# Altium schematic symbol library MyBoard_v1.SCHLIB: 9 symbols
Pins are listed as number, name and electrical type; pins without a type are passive.

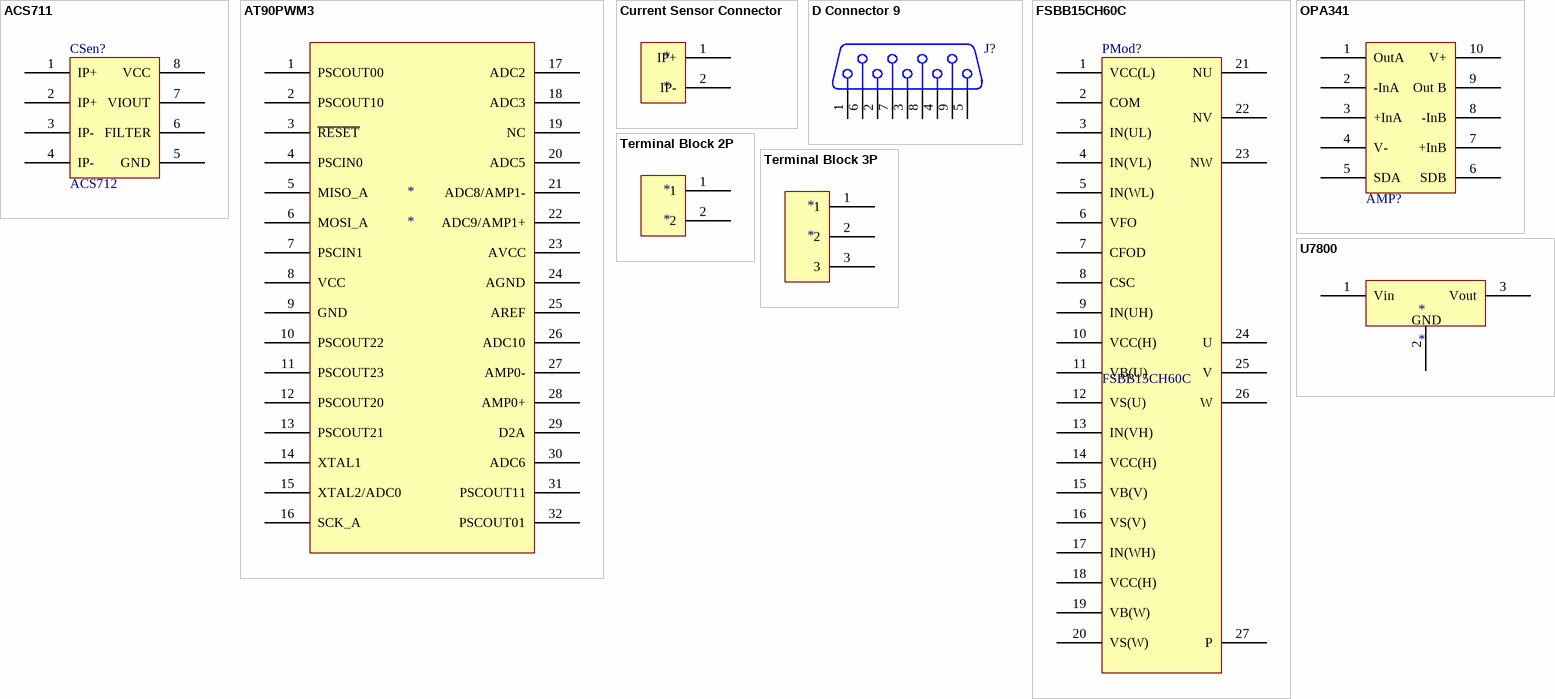
[diagram p0: symbols ACS711 to U7800]

## ACS711
designator CSen?, comment ACS712
footprint ACS712
pins: 1 IP+, 2 IP+, 3 IP-, 4 IP-, 5 GND, 6 FILTER, 7 VIOUT, 8 VCC

## AT90PWM3
designator *
footprint AT90PWM3B
pins: 1 PSCOUT00, 2 PSCOUT10, 3 ~{RESET}, 4 PSCIN0, 5 MISO_A, 6 MOSI_A, 7 PSCIN1, 8 VCC, 9 GND, 10 PSCOUT22, 11 PSCOUT23, 12 PSCOUT20, 13 PSCOUT21, 14 XTAL1, 15 XTAL2/ADC0, 16 SCK_A, 17 ADC2, 18 ADC3, 19 NC, 20 ADC5, 21 ADC8/AMP1-, 22 ADC9/AMP1+, 23 AVCC, 24 AGND, 25 AREF, 26 ADC10, 27 AMP0-, 28 AMP0+, 29 D2A, 30 ADC6, 31 PSCOUT11, 32 PSCOUT01

## Current Sensor Connector
designator *
footprint RAD-0.3 (Radial Cap, Thru-Hole; 2 Leads; 0.3 in Pin Spacing)
pins: 1 IP+, 2 IP-

## D Connector 9
designator J?
Receptacle Assembly, 9 Position, Right Angle; PackageDocument: O; Positions: 9; Published: 15-Jun-2001; LatestRevisionDate: 17-Jul-2002; LatestRevisionNote: Re-released for DXP Platform.; DatasheetDocument: 1-Sep-1999; PackageReference: 788750; Publisher: Altium Limited; Orientation: Right Angle; Gender: Receptacle
footprint DSUB1.385-2H9 (Connector; D Subminiature; 9 Position; Right Angle; Pitch 1.385 mm)
signal-integrity model Connector
pins: 1, 2, 3, 4, 5, 6, 7, 8, 9

## FSBB15CH60C
designator PMod?
footprint FSBB20CH60F
pins: 1 VCC(L), 2 COM, 3 IN(UL), 4 IN(VL), 5 IN(WL), 6 VFO, 7 CFOD, 8 CSC, 9 IN(UH), 10 VCC(H), 11 VB(U), 12 VS(U), 13 IN(VH), 14 VCC(H), 15 VB(V), 16 VS(V), 17 IN(WH), 18 VCC(H), 19 VB(W), 20 VS(W), 21 NU, 22 NV, 23 NW, 24 U, 25 V, 26 W, 27 P

## OPA341
designator AMP?  (value not drawn)
pins: 1 OutA, 2 -InA, 3 +InA, 4 V-, 5 SDA, 6 SDB, 7 +InB, 8 -InB, 9 Out B, 10 V+

## Terminal Block 2P
designator *
pins: 1, 2

## Terminal Block 3P
designator *
pins: 1, 2, 3

## U7800
designator *
footprint U7800
pins: 1 Vin, 2 GND (power), 3 Vout